# Altium schematic symbol library VGA.SchLib: 3 symbols
Pins are listed as number, name and electrical type; pins without a type are passive.

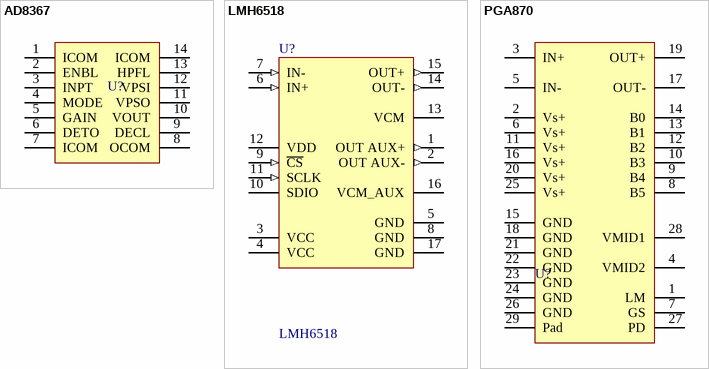
[diagram p0: symbols AD8367 to PGA870]

## AD8367
designator U?  (value not drawn)
500 MHz, Linear-in-dB VGA  with AGC Detector
footprint TSSOP14_L
footprint TSSOP14_M
footprint TSSOP14_N
pins: 1 ICOM, 2 ENBL, 3 INPT, 4 MODE, 5 GAIN, 6 DETO, 7 ICOM, 8 OCOM, 9 DECL, 10 VOUT, 11 VPSO, 12 VPSI, 13 HPFL, 14 ICOM

## LMH6518
designator U?
900 MHz, DigitallyControlled,VariableGain Amplifier
footprint WQFN16
pins: 1 OUT AUX+ (out), 2 OUT AUX- (out), 3 VCC (power), 4 VCC (power), 5 GND (power), 6 IN+ (in), 7 IN- (in), 8 GND (power), 9 ~{CS} (in), 10 SDIO (hiz), 11 SCLK (in), 12 VDD (power), 13 VCM, 14 OUT- (out), 15 OUT+ (out), 16 VCM_AUX, 17 GND (power)

## PGA870
designator U?  (value not drawn)
High-Speed, Fully Differential, Programmable-Gain Amplifier
footprint QFN28 (QFN, 28-Leads, Body 5.2x5.2mm (max), Pitch 0.50mm, IPC Medium Density)
pins: 1 LM, 2 Vs+, 3 IN+, 4 VMID2, 5 IN-, 6 Vs+, 7 GS, 8 B5, 9 B4, 10 B3, 11 Vs+, 12 B2, 13 B1, 14 B0, 15 GND, 16 Vs+, 17 OUT-, 18 GND, 19 OUT+, 20 Vs+, 21 GND, 22 GND, 23 GND, 24 GND, 25 Vs+, 26 GND, 27 PD, 28 VMID1, 29 Pad